# EAGLE library part MGC3130 (library pimoroni)
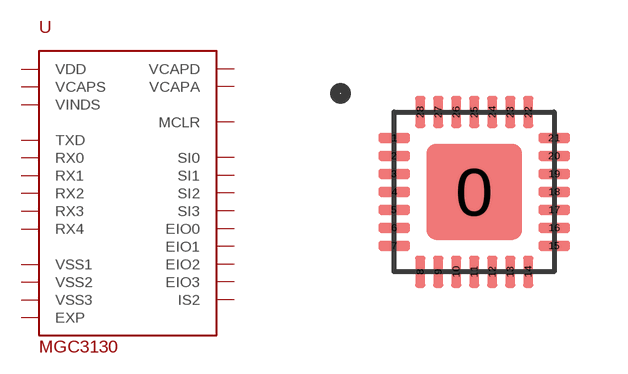
[diagram p19: symbol with the pads of QFN-28; footprint QFN-28]

Designator prefix -

## MGC3130  [QFN-28]
0  EXP
1  VCAPS
2  VINDS
3  VSS2
4  RX0
5  RX1
6  RX2
7  RX3
8  RX4
9  VCAPA
10  VSS3
11  VCAPD
12  EIO0
13  EIO1
14  EIO2
15  IS2
19  EIO3
20  SI0
21  SI1
22  SI2
23  SI3
24  MCLR
25  TXD
27  VSS1
28  VDD

## Footprint QFN-28 (pad centres in mm)
smd 2.4 x 2.4: 0 0,0
smd 0.8 x 0.26: 1 -2,1.35; 2 -2,0.9; 3 -2,0.45; 4 -2,0; 5 -2,-0.45; 6 -2,-0.9; 7 -2,-1.35; 15 2,-1.35; 16 2,-0.9; 17 2,-0.45; 18 2,0; 19 2,0.45; 20 2,0.9; 21 2,1.35
smd 0.26 x 0.8: 8 -1.35,-2; 9 -0.9,-2; 10 -0.45,-2; 11 0,-2; 12 0.45,-2; 13 0.9,-2; 14 1.35,-2; 22 1.35,2; 23 0.9,2; 24 0.45,2; 25 0,2; 26 -0.45,2; 27 -0.9,2; 28 -1.35,2